# Altium schematic symbol library 6N13x Series.SchLib: 2 symbols
Pins are listed as number, name and electrical type; pins without a type are passive.

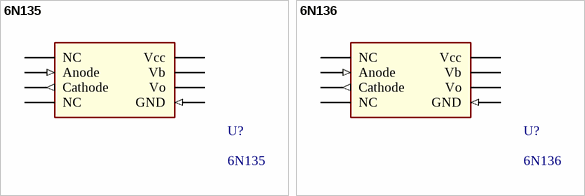
[diagram p0: symbols 6N135 to 6N136]

## 6N135
designator U?
Optoisolator Transistor with Base Output 5000Vrms 1 Channel 8-SMD; Manufacturer 1: Lite-On Inc.; Manufacturer 1 PN: 6N135S-TA1; ComponentLink1Description: Datasheet; ComponentLink1URL: https://media.digikey.com/pdf/Data%20Sheets/Lite-On%20PDFs/6N135-36%20Series.pdf; Digikey PN: 160-1786-1-ND; Mouser PN: 859-6N135STA1
footprint 6N135 PDIP SMD (Optoisolator Transistor with Base Output 5000Vrms 1 Channel 8-SMD)
pins: 1 NC (power), 2 Anode (in), 3 Cathode (out), 4 NC (power), 5 GND (in), 6 Vo (power), 7 Vb (power), 8 Vcc (power)

## 6N136
designator U?
Optoisolator Transistor with Base Output 5000Vrms 1 Channel 8-SMD; Manufacturer 1: Lite-On Inc.; Manufacturer 1 PN: 6N136S-TA1; ComponentLink1Description: Datasheet; ComponentLink1URL: https://media.digikey.com/pdf/Data%20Sheets/Lite-On%20PDFs/6N135-36%20Series.pdf; Digikey PN: 160-1790-1-ND; Mouser PN: 859-6N136STA1
footprint 6N136 PDIP SMD (Optoisolator Transistor with Base Output 5000Vrms 1 Channel 8-SMD)
pins: 1 NC (power), 2 Anode (in), 3 Cathode (out), 4 NC (power), 5 GND (in), 6 Vo (power), 7 Vb (power), 8 Vcc (power)